# Altium integrated library BD00GA3WEFJ-E2.IntLib: 2 symbols
Pins are listed as number, name and electrical type; pins without a type are passive.

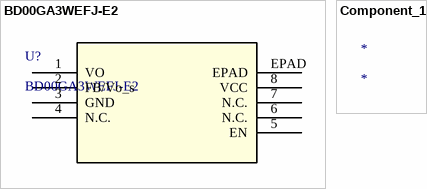
[diagram p0: symbols BD00GA3WEFJ-E2 to Component_1]

## BD00GA3WEFJ-E2
designator U?
No Description Available; Mfr_Name: ROHM Semiconductor; Copyright: Copyright (C) 2022 Ultra Librarian. All rights reserved.; Manufacturer_Part_Number: BD00GA3WEFJ-E2; Digi-Key_Part_Number_1: BD00GA3WEFJ-E2TR-ND; Digi-Key_Part_Number_2: BD00GA3WEFJ-E2CT-ND; Digi-Key_Part_Number_3: BD00GA3WEFJ-E2DKR-ND; RefDes: RefDes; Type: DEV
footprint HTSOP-J8_ROM
pins: 1 VO, 2 FB/Vo_s, 3 GND, 4 N.C., 5 EN, 6 N.C., 7 N.C., 8 VCC (power), EPAD

## Component_1
designator *